# Altium schematic symbol library 10118192-0002LF.SchLib: 1 symbol
Pins are listed as number, name and electrical type; pins without a type are passive.

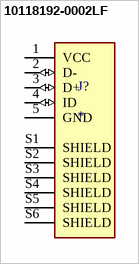
[diagram p0: symbol 10118192-0002LF]

## 10118192-0002LF
designator J?
Micro USB 2.0, Input Output Connectors, B TYPE RECEPTACLE without flange; MF: Amphenol ICC; MP: 10118192-0002LF; SnapEDA_Link: https://www.snapeda.com/parts/10118192-0002LF/Amphenol+FCI/view-part/?ref=snap; Package: None; Value: *; Check_prices: https://www.snapeda.com/parts/10118192-0002LF/Amphenol+FCI/view-part/?ref=eda
footprint AMPHENOL_10118192-0002LF
pins: 1 VCC (power), 2 D- (io), 3 D+ (io), 4 ID (io), 5 GND (power), S1 SHIELD, S2 SHIELD, S3 SHIELD, S4 SHIELD, S5 SHIELD, S6 SHIELD